# Altium footprint library PCB1.PcbLib: 36 footprints (part 3 of 3)
Each footprint in its own frame and in the unit in brackets; x right, y up, seen from the top. Pads: shape width x height; smd on the part's side, far side on the other; paste and mask are expansions set on the pad; w line width, h text height; cw(c..) or ccw(c..) is an arc to the next point about the centre after c.
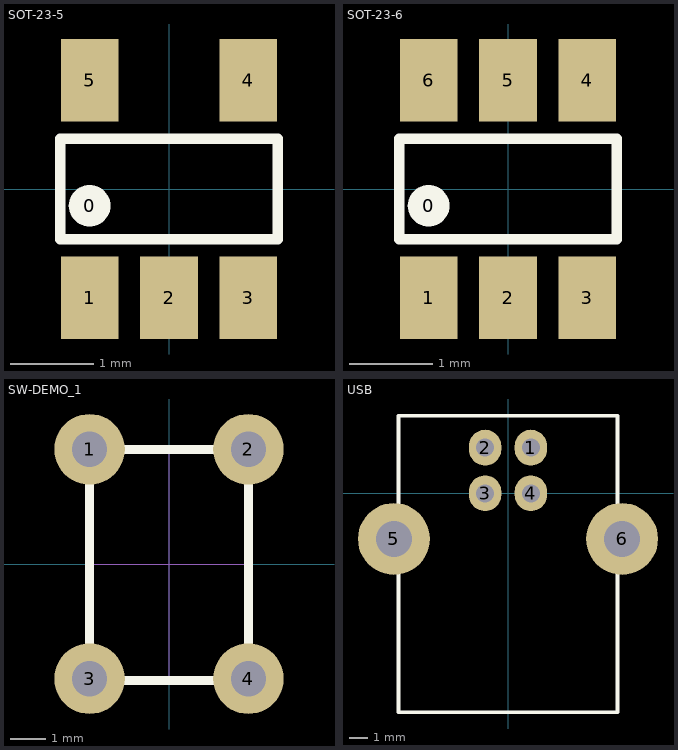
[diagram p2: the footprints below, top view; thin cyan lines are the x and y axes]

## SOT-23-5 [mm]
height 1.6
pads (6):
  round 0.5 on Top Overlay: 0(-0.95,-0.2)
  rect 0.69x0.99 smd: 1(-0.95,-1.3) 2(0,-1.3) 3(0.95,-1.3) 4(0.95,1.3) 5(-0.95,1.3)
Top Overlay:
  lines w0.127: -1.3,-0.6 1.3,-0.6 1.3,0.6 -1.3,0.6 -1.3,-0.6

## SOT-23-6 [mm]
height 1.6
pads (7):
  round 0.5 on Top Overlay: 0(-0.95,-0.2)
  rect 0.69x0.99 smd: 1(-0.95,-1.3) 2(0,-1.3) 3(0.95,-1.3) 4(0.95,1.3) 5(0,1.3) 6(-0.95,1.3)
Top Overlay:
  lines w0.127: -1.3,-0.6 -1.3,0.6 1.3,0.6 1.3,-0.6 -1.3,-0.6

## SW-DEMO_1 [mm]
pads (4):
  round 2 hole 1: 1(-2.25,3.25) 2(2.25,3.25) 3(-2.25,-3.25) 4(2.25,-3.25)
Top Overlay:
  lines w0.254: -2.25,-3.3 2.25,-3.3 2.25,3.25 -2.25,3.25 -2.25,-3.3
Mechanical 2:
  lines w0.025: -2.25,0 2.25,0 ; 0,-3.3 0,3.25

## USB [mm]
height 8.2
pads (6):
  oval 1.8x2 hole 1: 1(1.27,2.54) 2(-1.27,2.54) 3(-1.27,0) 4(1.27,0)
  round 4 hole 2: 5(-6.35,-2.54) 6(6.35,-2.54)
Top Overlay:
  lines w0.2: -6.096,-12.192 -6.096,4.318 -4.572,4.318 -2.54,4.318 6.096,4.318 6.096,-12.192 4.572,-12.192 2.54,-12.192 -6.096,-12.192